# Altium schematic symbol library schematic library L pcb.SchLib: 2 symbols
Pins are listed as number, name and electrical type; pins without a type are passive.

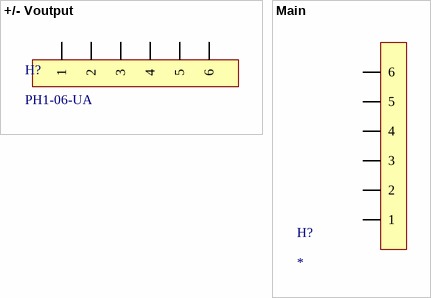
[diagram p0: symbols +/- Voutput to Main]

## +/- Voutput
designator H?, comment PH1-06-UA
PH Series 6 Position Through Hole Single Row Straight .100 Header; Manufacturer: Adam Equipment; Number of Positions: 6; Pitch: 2.54mm; Supplier: Digi-Key; Supplier Part Number: 2057-PH1-06-UA-ND; Manufacturer Part Number: PH1-06-UA; RoHS: Yes; Category: Connectors; Stock: 25838; Pricing: 1=0.13000, 10=0.09900, 100=0.07320, 500=0.06060, 1000=0.05302, 5000=0.04545, 10000=0.04419 (USD); Mounting Technology: Through Hole; Contact Plating: Gold; Number of Contacts: 6; Packaging: Bag; Number of Rows: 1; Lead Free: Lead Free; ComponentLink1URL: http://www.adam-tech.com/catalog/2012/page_312-315.pdf?src-supplier=Future+Electronics; ComponentLink1Description: http://www.adam-tech.com/catalog/2012/page_312-315.pdf?src-supplier=Future+Electronics; Supplier 1: Digi-Key; Supplier Part Number 1: 2057-PH1-06-UA-ND
footprint +/- Voutput
pins: ?1 1, ?2 2, ?3 3, ?4 4, ?5 5, ?6 6

## Main
designator H?
PH Series 6 Position Through Hole Single Row Straight .100 Header; Manufacturer: Adam Equipment; Manufacturer Part Number: PH1-06-UA; Number of Positions: 6; Pitch: 2.54mm; Supplier: Digi-Key; Supplier Part Number: 2057-PH1-06-UA-ND; RoHS: Yes; Category: Connectors; Stock: 25838; Pricing: 1=0.13000, 10=0.09900, 100=0.07320, 500=0.06060, 1000=0.05302, 5000=0.04545, 10000=0.04419 (USD); Mounting Technology: Through Hole; Contact Plating: Gold; Number of Contacts: 6; Packaging: Bag; Number of Rows: 1; Lead Free: Lead Free; ComponentLink1URL: http://www.adam-tech.com/catalog/2012/page_312-315.pdf?src-supplier=Future+Electronics; ComponentLink1Description: http://www.adam-tech.com/catalog/2012/page_312-315.pdf?src-supplier=Future+Electronics; Supplier 1: Digi-Key; Supplier Part Number 1: 2057-PH1-06-UA-ND
footprint Main
pins: ?1 1, ?2 2, ?3 3, ?4 4, ?5 5, ?6 6